# EAGLE library part 631012212021 (library Wuerth_Elektronik_eiCan_Communication_Connectors_v2.4)
WR-COM Horizontal Shielded Colored Dual Mini DIN, 12 pins
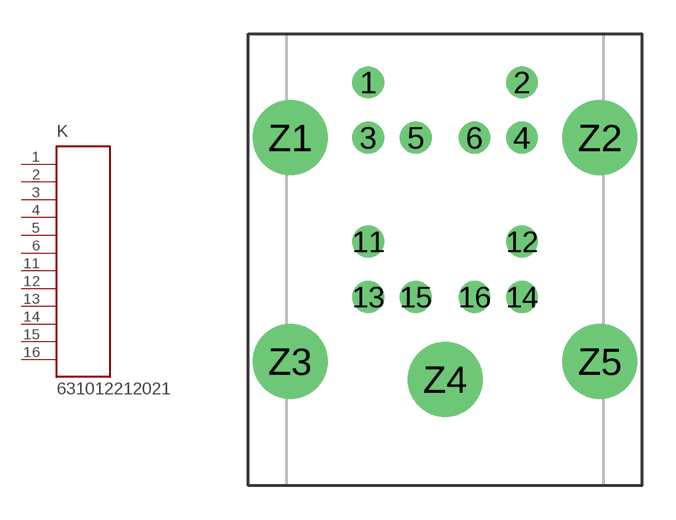
[diagram p5: symbol with the pads of 631012212021; footprint 631012212021]

Designator prefix K

## 631012212021  [631012212021]
1  1  pas
2  2  pas
3  3  pas
4  4  pas
5  5  pas
6  6  pas
11  7  pas
12  8  pas
13  9  pas
14  10  pas
15  11  pas
16  12  pas

## Footprint 631012212021 (pad centres in mm)
WR-COM Horizontal Shielded Colored Dual Mini DIN, 12 pins
drill 0.9 round: 1 -3.4,2.45; 2 3.4,2.45; 3 -3.4,0; 4 3.4,0; 5 -1.3,0; 6 1.3,0; 11 -3.4,-4.6; 12 3.4,-4.6; 13 -3.4,-7.05; 14 3.4,-7.05; 15 -1.3,-7.05; 16 1.3,-7.05
drill 2.3 round: Z1 -6.85,0; Z2 6.85,0; Z3 -6.85,-9.9; Z4 0,-10.7; Z5 6.85,-9.9